# Altium integrated library Wurth-inductor.IntLib: 175 symbols (part 3 of 3)
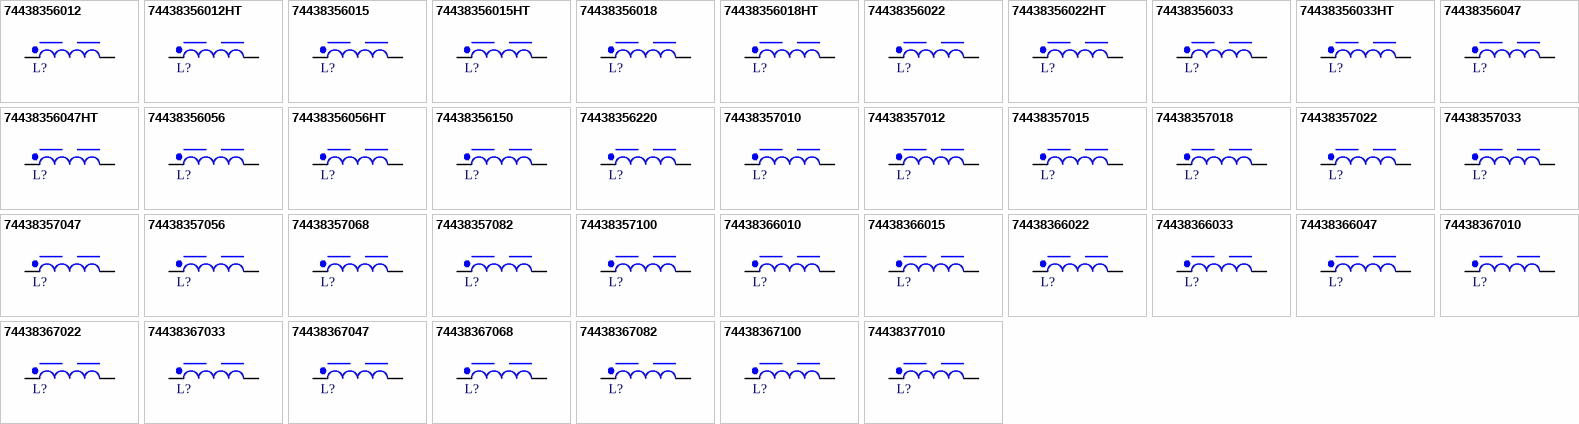
[diagram p6: symbols 74438356012 to 74438377010]

## 74438367082
designator L?, comment 8.2uH, 4.4A  (value not drawn)
WE-MAPI, size 5030, 8.2uH, 4.4A, 57.5mOhm; Manufacturer Part Number: 74438367082; Manufacturer: Wurth Elektronik; Case/Size Code: 5030; DC Resistance: 50mOhm; Saturation Current: 5A; Self Resonant Frequency: 13MHz; Match Code: WE-MAPI; ComponentLink1Description: Website Link; ComponentLink1URL: https://www.we-online.com/redexpert/article/74438367082?ad; ComponentLink2Description: Datasheet Link; ComponentLink2URL: https://www.we-online.com/redexpert/spec/74438367082?ad; Mount: Surface Mount; Operating Temperature Max: 125°C; Operating Temperature Min: -40°C; Packaging: Tape and Reel; Length: 5.4mm; Width: 5.4mm; Height: 3.1mm; DC Resistance Max: 57.5mOhm; Inductance: 8.2uH; Rated Current: 4.4A
footprint WE-MAPI_5030
simulation model 5030_74438367082_8.2u
pins: 1, 2

## 74438367100
designator L?, comment 10uH, 3.3A  (value not drawn)
WE-MAPI, size 5030, 10uH, 3.3A, 70.2mOhm; Manufacturer Part Number: 74438367100; Manufacturer: Wurth Elektronik; Case/Size Code: 5030; DC Resistance: 61mOhm; Saturation Current: 4.8A; Self Resonant Frequency: 13MHz; Match Code: WE-MAPI; ComponentLink1Description: Website Link; ComponentLink1URL: https://www.we-online.com/redexpert/article/74438367100?ad; ComponentLink2Description: Datasheet Link; ComponentLink2URL: https://www.we-online.com/redexpert/spec/74438367100?ad; Mount: Surface Mount; Operating Temperature Max: 125°C; Operating Temperature Min: -40°C; Packaging: Tape and Reel; Length: 5.4mm; Width: 5.4mm; Height: 3.1mm; DC Resistance Max: 70.2mOhm; Inductance: 10uH; Rated Current: 3.3A
footprint WE-MAPI_5030
simulation model 5030_74438367100_10u
pins: 1, 2

## 74438377010
designator L?, comment 1uH, 16.6A  (value not drawn)
WE-MAPI, size 6030, 1uH, 16.6A, 5.6mOhm; Manufacturer Part Number: 74438377010; Manufacturer: Wurth Elektronik; Case/Size Code: 6030; Operating Voltage (DC): 80V; Saturation Current: 19.5A; Self Resonant Frequency: 47MHz; Match Code: WE-MAPI; ComponentLink1Description: Website Link; ComponentLink1URL: https://www.we-online.com/redexpert/article/74438377010?ad; ComponentLink2Description: Datasheet Link; ComponentLink2URL: https://www.we-online.com/redexpert/spec/74438377010?ad; Mount: Surface Mount; Operating Temperature Max: 125°C; Operating Temperature Min: -40°C; Packaging: Tape and Reel; Length: 6.6mm; Width: 6.6mm; Height: 3.1mm; DC Resistance Max: 5.6mOhm; Inductance: 1uH; Rated Current: 16.6A
footprint WE-MAPI_6030
simulation model 6030_74438377010_1u
pins: 1, 2

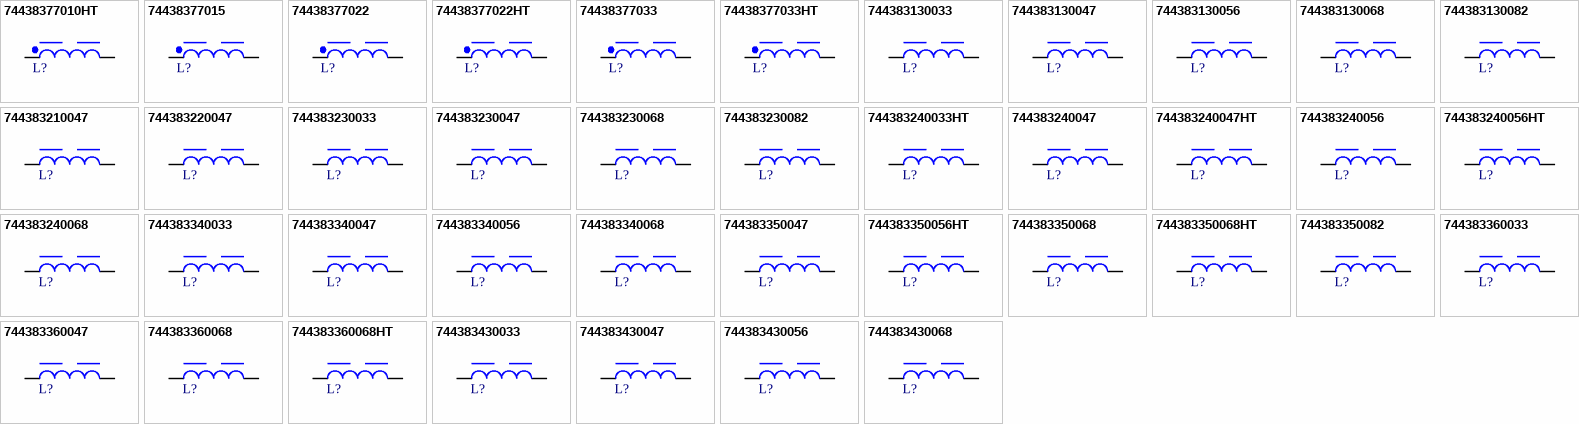
[diagram p3: symbols 74438377010HT to 744383430068]

## 74438377010HT
designator L?, comment 1uH, 15.2A  (value not drawn)
WE-MAPI, size 6030, 1uH, 15.2A, 6.9mOhm; Manufacturer Part Number: 74438377010HT; Manufacturer: Wurth Elektronik; Case/Size Code: 6030; Operating Voltage (DC): 80V; Saturation Current: 18A; Self Resonant Frequency: 47MHz; Match Code: WE-MAPI; ComponentLink1Description: Website Link; ComponentLink1URL: https://www.we-online.com/redexpert/article/74438377010HT?ad; ComponentLink2Description: Datasheet Link; ComponentLink2URL: https://www.we-online.com/redexpert/spec/74438377010HT?ad; Mount: Surface Mount; Operating Temperature Max: 150°C; Operating Temperature Min: -55°C; Packaging: Tape and Reel; Length: 6.6mm; Width: 6.6mm; Height: 3.1mm; DC Resistance Max: 6.9mOhm; Inductance: 1uH; Rated Current: 15.2A
footprint WE-MAPI_6030
simulation model 6030HT_74438377010HT_1u
pins: 1, 2

## 74438377015
designator L?, comment 1.5uH, 13.1A  (value not drawn)
WE-MAPI, size 6030, 1.5uH, 13.1A, 9.9mOhm; Manufacturer Part Number: 74438377015; Manufacturer: Wurth Elektronik; Case/Size Code: 6030; Operating Voltage (DC): 80V; Saturation Current: 15.7A; Self Resonant Frequency: 37MHz; Match Code: WE-MAPI; ComponentLink1Description: Website Link; ComponentLink1URL: https://www.we-online.com/redexpert/article/74438377015?ad; ComponentLink2Description: Datasheet Link; ComponentLink2URL: https://www.we-online.com/redexpert/spec/74438377015?ad; Mount: Surface Mount; Operating Temperature Max: 125°C; Operating Temperature Min: -40°C; Packaging: Tape and Reel; Length: 6.6mm; Width: 6.6mm; Height: 3.1mm; DC Resistance Max: 9.9mOhm; Inductance: 1.5uH; Rated Current: 13.1A
footprint WE-MAPI_6030
simulation model 6030_74438377015_1.5u
pins: 1, 2

## 74438377022
designator L?, comment 2.2uH, 12.4A  (value not drawn)
WE-MAPI, size 6030, 2.2uH, 12.4A, 11.9mOhm; Manufacturer Part Number: 74438377022; Manufacturer: Wurth Elektronik; Case/Size Code: 6030; Operating Voltage (DC): 80V; Saturation Current: 14A; Self Resonant Frequency: 30MHz; Match Code: WE-MAPI; ComponentLink1Description: Website Link; ComponentLink1URL: https://www.we-online.com/redexpert/article/74438377022?ad; ComponentLink2Description: Datasheet Link; ComponentLink2URL: https://www.we-online.com/redexpert/spec/74438377022?ad; Mount: Surface Mount; Operating Temperature Max: 125°C; Operating Temperature Min: -40°C; Packaging: Tape and Reel; Length: 6.6mm; Width: 6.6mm; Height: 3.1mm; DC Resistance Max: 11.9mOhm; Inductance: 2.2uH; Rated Current: 12.4A
footprint WE-MAPI_6030
simulation model 6030_74438377022_2.2u
pins: 1, 2

## 74438377022HT
designator L?, comment 2.2uH, 11.4A  (value not drawn)
WE-MAPI, size 6030, 2.2uH, 11.4A, 13.7mOhm; Manufacturer Part Number: 74438377022HT; Manufacturer: Wurth Elektronik; Case/Size Code: 6030; Operating Voltage (DC): 80V; Saturation Current: 12.8A; Self Resonant Frequency: 28MHz; Match Code: WE-MAPI; ComponentLink1Description: Website Link; ComponentLink1URL: https://www.we-online.com/redexpert/article/74438377022HT?ad; ComponentLink2Description: Datasheet Link; ComponentLink2URL: https://www.we-online.com/redexpert/spec/74438377022HT?ad; Mount: Surface Mount; Operating Temperature Max: 150°C; Operating Temperature Min: -55°C; Packaging: Tape and Reel; Length: 6.6mm; Width: 6.6mm; Height: 3.1mm; DC Resistance Max: 13.7mOhm; Inductance: 2.2uH; Rated Current: 11.4A
footprint WE-MAPI_6030
simulation model 6030HT_74438377022HT_2.2u
pins: 1, 2

## 74438377033
designator L?, comment 3.3uH, 9.9A  (value not drawn)
WE-MAPI, size 6030, 3.3uH, 9.9A, 18.3mOhm; Manufacturer Part Number: 74438377033; Manufacturer: Wurth Elektronik; Case/Size Code: 6030; Operating Voltage (DC): 80V; Saturation Current: 10.8A; Self Resonant Frequency: 23MHz; Match Code: WE-MAPI; ComponentLink1Description: Website Link; ComponentLink1URL: https://www.we-online.com/redexpert/article/74438377033?ad; ComponentLink2Description: Datasheet Link; ComponentLink2URL: https://www.we-online.com/redexpert/spec/74438377033?ad; Mount: Surface Mount; Operating Temperature Max: 125°C; Operating Temperature Min: -40°C; Packaging: Tape and Reel; Length: 6.6mm; Width: 6.6mm; Height: 3.1mm; DC Resistance Max: 18.3mOhm; Inductance: 3.3uH; Rated Current: 9.9A
footprint WE-MAPI_6030
simulation model 6030_74438377033_3.3u
pins: 1, 2

## 74438377033HT
designator L?, comment 3.3uH, 9.6A  (value not drawn)
WE-MAPI, size 6030, 3.3uH, 9.6A, 20.4mOhm; Manufacturer Part Number: 74438377033HT; Manufacturer: Wurth Elektronik; Case/Size Code: 6030; Operating Voltage (DC): 80V; Saturation Current: 11.2A; Self Resonant Frequency: 22MHz; Match Code: WE-MAPI; ComponentLink1Description: Website Link; ComponentLink1URL: https://www.we-online.com/redexpert/article/74438377033HT?ad; ComponentLink2Description: Datasheet Link; ComponentLink2URL: https://www.we-online.com/redexpert/spec/74438377033HT?ad; Mount: Surface Mount; Operating Temperature Max: 150°C; Operating Temperature Min: -55°C; Packaging: Tape and Reel; Length: 6.6mm; Width: 6.6mm; Height: 3.1mm; DC Resistance Max: 20.4mOhm; Inductance: 3.3uH; Rated Current: 9.6A
footprint WE-MAPI_6030
simulation model 6030HT_74438377033HT_3.3u
pins: 1, 2

## 744383130033
designator L?, comment 0.33uH, 1.9A  (value not drawn)
WE-MAPI, size 1610, 0.33uH, 1.9A, 84mOhm; Manufacturer Part Number: 744383130033; Manufacturer: Wurth Elektronik; Case/Size Code: 1610; DC Resistance: 65mOhm; Saturation Current: 4.9A; Self Resonant Frequency: 215MHz; Match Code: WE-MAPI; ComponentLink1Description: Website Link; ComponentLink1URL: https://www.we-online.com/redexpert/article/744383130033?ad; ComponentLink2Description: Datasheet Link; ComponentLink2URL: https://www.we-online.com/redexpert/spec/744383130033?ad; Mount: Surface Mount; Operating Temperature Max: 125°C; Operating Temperature Min: -40°C; Packaging: Tape and Reel; Length: 1.6mm; Width: 1.6mm; Height: 1mm; DC Resistance Max: 84mOhm; Inductance: 0.33uH; Rated Current: 1.9A
footprint WE-MAPI_1610
simulation model 1610_744383130033_0.33u
pins: 1, 2

## 744383130047
designator L?, comment 0.47uH, 1.7A  (value not drawn)
WE-MAPI, size 1610, 0.47uH, 1.7A, 101mOhm; Manufacturer Part Number: 744383130047; Manufacturer: Wurth Elektronik; Case/Size Code: 1610; DC Resistance: 77mOhm; Saturation Current: 4.5A; Self Resonant Frequency: 200MHz; Match Code: WE-MAPI; ComponentLink1Description: Website Link; ComponentLink1URL: https://www.we-online.com/redexpert/article/744383130047?ad; ComponentLink2Description: Datasheet Link; ComponentLink2URL: https://www.we-online.com/redexpert/spec/744383130047?ad; Mount: Surface Mount; Operating Temperature Max: 125°C; Operating Temperature Min: -40°C; Packaging: Tape and Reel; Length: 1.6mm; Width: 1.6mm; Height: 1mm; DC Resistance Max: 101mOhm; Inductance: 0.47uH; Rated Current: 1.7A
footprint WE-MAPI_1610
simulation model 1610_744383130047_0.47u
pins: 1, 2

## 744383130056
designator L?, comment 0.56uH, 1.65A  (value not drawn)
WE-MAPI, size 1610, 0.56uH, 1.65A, 113mOhm; Manufacturer Part Number: 744383130056; Manufacturer: Wurth Elektronik; Case/Size Code: 1610; DC Resistance: 90mOhm; Saturation Current: 4A; Self Resonant Frequency: 150MHz; Match Code: WE-MAPI; ComponentLink1Description: Website Link; ComponentLink1URL: https://www.we-online.com/redexpert/article/744383130056?ad; ComponentLink2Description: Datasheet Link; ComponentLink2URL: https://www.we-online.com/redexpert/spec/744383130056?ad; Mount: Surface Mount; Operating Temperature Max: 125°C; Operating Temperature Min: -40°C; Packaging: Tape and Reel; Length: 1.6mm; Width: 1.6mm; Height: 1mm; DC Resistance Max: 113mOhm; Inductance: 0.56uH; Rated Current: 1.65A
footprint WE-MAPI_1610
simulation model 1610_744383130056_0.56u
pins: 1, 2

## 744383130068
designator L?, comment 0.68uH, 1.55A  (value not drawn)
WE-MAPI, size 1610, 0.68uH, 1.55A, 126mOhm; Manufacturer Part Number: 744383130068; Manufacturer: Wurth Elektronik; Case/Size Code: 1610; DC Resistance: 101mOhm; Saturation Current: 3.8A; Self Resonant Frequency: 135MHz; Match Code: WE-MAPI; ComponentLink1Description: Website Link; ComponentLink1URL: https://www.we-online.com/redexpert/article/744383130068?ad; ComponentLink2Description: Datasheet Link; ComponentLink2URL: https://www.we-online.com/redexpert/spec/744383130068?ad; Mount: Surface Mount; Operating Temperature Max: 125°C; Operating Temperature Min: -40°C; Packaging: Tape and Reel; Length: 1.6mm; Width: 1.6mm; Height: 1mm; DC Resistance Max: 126mOhm; Inductance: 0.68uH; Rated Current: 1.55A
footprint WE-MAPI_1610
simulation model 1610_744383130068_0.68u
pins: 1, 2

## 744383130082
designator L?, comment 0.82uH, 1.45A  (value not drawn)
WE-MAPI, size 1610, 0.82uH, 1.45A, 144mOhm; Manufacturer Part Number: 744383130082; Manufacturer: Wurth Elektronik; Case/Size Code: 1610; DC Resistance: 115mOhm; Saturation Current: 3.6A; Self Resonant Frequency: 115MHz; Match Code: WE-MAPI; ComponentLink1Description: Website Link; ComponentLink1URL: https://www.we-online.com/redexpert/article/744383130082?ad; ComponentLink2Description: Datasheet Link; ComponentLink2URL: https://www.we-online.com/redexpert/spec/744383130082?ad; Mount: Surface Mount; Operating Temperature Max: 125°C; Operating Temperature Min: -40°C; Packaging: Tape and Reel; Length: 1.6mm; Width: 1.6mm; Height: 1mm; DC Resistance Max: 144mOhm; Inductance: 0.82uH; Rated Current: 1.45A
footprint WE-MAPI_1610
simulation model 1610_744383130082_0.82u
pins: 1, 2

## 744383210047
designator L?, comment 0.47uH, 2.2A  (value not drawn)
WE-MAPI, size 2506, 0.47uH, 2.2A, 95mOhm; Manufacturer Part Number: 744383210047; Manufacturer: Wurth Elektronik; Case/Size Code: 2506; DC Resistance: 76mOhm; Saturation Current: 3.7A; Self Resonant Frequency: 165MHz; Match Code: WE-MAPI; ComponentLink1Description: Website Link; ComponentLink1URL: https://www.we-online.com/redexpert/article/744383210047?ad; ComponentLink2Description: Datasheet Link; ComponentLink2URL: https://www.we-online.com/redexpert/spec/744383210047?ad; Mount: Surface Mount; Operating Temperature Max: 125°C; Operating Temperature Min: -40°C; Packaging: Tape and Reel; Length: 2.5mm; Width: 2mm; Height: 0.6mm; DC Resistance Max: 95mOhm; Inductance: 0.47uH; Rated Current: 2.2A
footprint WE-MAPI_2506
simulation model 2506_744383210047_0.47u
pins: 1, 2

## 744383220047
designator L?, comment 0.47uH, 2.25A  (value not drawn)
WE-MAPI, size 2508, 0.47uH, 2.25A, 87mOhm; Manufacturer Part Number: 744383220047; Manufacturer: Wurth Elektronik; Case/Size Code: 2508; DC Resistance: 70mOhm; Saturation Current: 4.4A; Self Resonant Frequency: 160MHz; Match Code: WE-MAPI; ComponentLink1Description: Website Link; ComponentLink1URL: https://www.we-online.com/redexpert/article/744383220047?ad; ComponentLink2Description: Datasheet Link; ComponentLink2URL: https://www.we-online.com/redexpert/spec/744383220047?ad; Mount: Surface Mount; Operating Temperature Max: 125°C; Operating Temperature Min: -40°C; Packaging: Tape and Reel; Length: 2.5mm; Width: 2mm; Height: 0.8mm; DC Resistance Max: 87mOhm; Inductance: 0.47uH; Rated Current: 2.25A
footprint WE-MAPI_2508
simulation model 2508_744383220047_0.47u
pins: 1, 2

## 744383230033
designator L?, comment 0.33uH, 3.4A  (value not drawn)
WE-MAPI, size 2510, 0.33uH, 3.4A, 38mOhm; Manufacturer Part Number: 744383230033; Manufacturer: Wurth Elektronik; Case/Size Code: 2510; DC Resistance: 29mOhm; Saturation Current: 6.2A; Self Resonant Frequency: 180MHz; Match Code: WE-MAPI; ComponentLink1Description: Website Link; ComponentLink1URL: https://www.we-online.com/redexpert/article/744383230033?ad; ComponentLink2Description: Datasheet Link; ComponentLink2URL: https://www.we-online.com/redexpert/spec/744383230033?ad; Mount: Surface Mount; Operating Temperature Max: 125°C; Operating Temperature Min: -40°C; Packaging: Tape and Reel; Length: 2.5mm; Width: 2mm; Height: 1mm; DC Resistance Max: 38mOhm; Inductance: 0.33uH; Rated Current: 3.4A
footprint WE-MAPI_2510
simulation model 2510_744383230033_0.33u
pins: 1, 2

## 744383230047
designator L?, comment 0.47uH, 3.2A  (value not drawn)
WE-MAPI, size 2510, 0.47uH, 3.2A, 48mOhm; Manufacturer Part Number: 744383230047; Manufacturer: Wurth Elektronik; Case/Size Code: 2510; DC Resistance: 37mOhm; Saturation Current: 5.5A; Self Resonant Frequency: 170MHz; Match Code: WE-MAPI; ComponentLink1Description: Website Link; ComponentLink1URL: https://www.we-online.com/redexpert/article/744383230047?ad; ComponentLink2Description: Datasheet Link; ComponentLink2URL: https://www.we-online.com/redexpert/spec/744383230047?ad; Mount: Surface Mount; Operating Temperature Max: 125°C; Operating Temperature Min: -40°C; Packaging: Tape and Reel; Length: 2.5mm; Width: 2mm; Height: 1mm; DC Resistance Max: 48mOhm; Inductance: 0.47uH; Rated Current: 3.2A
footprint WE-MAPI_2510
simulation model 2510_744383230047_0.47u
pins: 1, 2

## 744383230068
designator L?, comment 0.68uH, 3.1A  (value not drawn)
WE-MAPI, size 2510, 0.68uH, 3.1A, 60mOhm; Manufacturer Part Number: 744383230068; Manufacturer: Wurth Elektronik; Case/Size Code: 2510; DC Resistance: 46mOhm; Saturation Current: 4.7A; Self Resonant Frequency: 135MHz; Match Code: WE-MAPI; ComponentLink1Description: Website Link; ComponentLink1URL: https://www.we-online.com/redexpert/article/744383230068?ad; ComponentLink2Description: Datasheet Link; ComponentLink2URL: https://www.we-online.com/redexpert/spec/744383230068?ad; Mount: Surface Mount; Operating Temperature Max: 125°C; Operating Temperature Min: -40°C; Packaging: Tape and Reel; Length: 2.5mm; Width: 2mm; Height: 1mm; DC Resistance Max: 60mOhm; Inductance: 0.68uH; Rated Current: 3.1A
footprint WE-MAPI_2510
simulation model 2510_744383230068_0.68u
pins: 1, 2

## 744383230082
designator L?, comment 0.82uH, 2.6A  (value not drawn)
WE-MAPI, size 2510, 0.82uH, 2.6A, 69mOhm; Manufacturer Part Number: 744383230082; Manufacturer: Wurth Elektronik; Case/Size Code: 2510; DC Resistance: 53mOhm; Saturation Current: 4.25A; Self Resonant Frequency: 105MHz; Match Code: WE-MAPI; ComponentLink1Description: Website Link; ComponentLink1URL: https://www.we-online.com/redexpert/article/744383230082?ad; ComponentLink2Description: Datasheet Link; ComponentLink2URL: https://www.we-online.com/redexpert/spec/744383230082?ad; Mount: Surface Mount; Operating Temperature Max: 125°C; Operating Temperature Min: -40°C; Packaging: Tape and Reel; Length: 2.5mm; Width: 2mm; Height: 1mm; DC Resistance Max: 69mOhm; Inductance: 0.82uH; Rated Current: 2.6A
footprint WE-MAPI_2510
simulation model 2510_744383230082_0.82u
pins: 1, 2

## 744383240033HT
designator L?, comment 0.33uH, 6.2A  (value not drawn)
WE-MAPI, size 2512, 0.33uH, 6.2A, 26.7mOhm; Manufacturer Part Number: 744383240033HT; Manufacturer: Wurth Elektronik; Case/Size Code: 2512; Operating Voltage (DC): 80V; Saturation Current: 8.6A; Self Resonant Frequency: 174MHz; Match Code: WE-MAPI; ComponentLink1Description: Website Link; ComponentLink1URL: https://www.we-online.com/redexpert/article/744383240033HT?ad; ComponentLink2Description: Datasheet Link; ComponentLink2URL: https://www.we-online.com/redexpert/spec/744383240033HT?ad; Mount: Surface Mount; Operating Temperature Max: 150°C; Operating Temperature Min: -55°C; Packaging: Tape and Reel; Length: 2.5mm; Width: 2mm; Height: 1.2mm; DC Resistance Max: 26.7mOhm; Inductance: 0.33uH; Rated Current: 6.2A
footprint WE-MAPI_2512
simulation model 2512HT_744383240033HT_0.33u
pins: 1, 2

## 744383240047
designator L?, comment 0.47uH, 3.4A  (value not drawn)
WE-MAPI, size 2512, 0.47uH, 3.4A, 40mOhm; Manufacturer Part Number: 744383240047; Manufacturer: Wurth Elektronik; Case/Size Code: 2512; DC Resistance: 30mOhm; Saturation Current: 6.25A; Self Resonant Frequency: 145MHz; Match Code: WE-MAPI; ComponentLink1Description: Website Link; ComponentLink1URL: https://www.we-online.com/redexpert/article/744383240047?ad; ComponentLink2Description: Datasheet Link; ComponentLink2URL: https://www.we-online.com/redexpert/spec/744383240047?ad; Mount: Surface Mount; Operating Temperature Max: 125°C; Operating Temperature Min: -40°C; Packaging: Tape and Reel; Length: 2.5mm; Width: 2mm; Height: 1.2mm; DC Resistance Max: 40mOhm; Inductance: 0.47uH; Rated Current: 3.4A
footprint WE-MAPI_2512
simulation model 2512_744383240047_0.47u
pins: 1, 2

## 744383240047HT
designator L?, comment 0.47uH, 5.3A  (value not drawn)
WE-MAPI, size 2512, 0.47uH, 5.3A, 34.7mOhm; Manufacturer Part Number: 744383240047HT; Manufacturer: Wurth Elektronik; Case/Size Code: 2512; Operating Voltage (DC): 80V; Saturation Current: 7.5A; Self Resonant Frequency: 131MHz; Match Code: WE-MAPI; ComponentLink1Description: Website Link; ComponentLink1URL: https://www.we-online.com/redexpert/article/744383240047HT?ad; ComponentLink2Description: Datasheet Link; ComponentLink2URL: https://www.we-online.com/redexpert/spec/744383240047HT?ad; Mount: Surface Mount; Operating Temperature Max: 150°C; Operating Temperature Min: -55°C; Packaging: Tape and Reel; Length: 2.5mm; Width: 2mm; Height: 1.2mm; DC Resistance Max: 34.7mOhm; Inductance: 0.47uH; Rated Current: 5.3A
footprint WE-MAPI_2512
simulation model 2512HT_744383240047HT_0.47u
pins: 1, 2

## 744383240056
designator L?, comment 0.56uH, 3.3A  (value not drawn)
WE-MAPI, size 2512, 0.56uH, 3.3A, 49mOhm; Manufacturer Part Number: 744383240056; Manufacturer: Wurth Elektronik; Case/Size Code: 2512; DC Resistance: 37mOhm; Saturation Current: 6A; Self Resonant Frequency: 120MHz; Match Code: WE-MAPI; ComponentLink1Description: Website Link; ComponentLink1URL: https://www.we-online.com/redexpert/article/744383240056?ad; ComponentLink2Description: Datasheet Link; ComponentLink2URL: https://www.we-online.com/redexpert/spec/744383240056?ad; Mount: Surface Mount; Operating Temperature Max: 125°C; Operating Temperature Min: -40°C; Packaging: Tape and Reel; Length: 2.5mm; Width: 2mm; Height: 1.2mm; DC Resistance Max: 49mOhm; Inductance: 0.56uH; Rated Current: 3.3A
footprint WE-MAPI_2512
simulation model 2512_744383240056_0.56u
pins: 1, 2

## 744383240056HT
designator L?, comment 0.56uH, 4.7A  (value not drawn)
WE-MAPI, size 2512, 0.56uH, 4.7A, 44.1mOhm; Manufacturer Part Number: 744383240056HT; Manufacturer: Wurth Elektronik; Case/Size Code: 2512; Operating Voltage (DC): 80V; Saturation Current: 6.7A; Self Resonant Frequency: 102MHz; Match Code: WE-MAPI; ComponentLink1Description: Website Link; ComponentLink1URL: https://www.we-online.com/redexpert/article/744383240056HT?ad; ComponentLink2Description: Datasheet Link; ComponentLink2URL: https://www.we-online.com/redexpert/spec/744383240056HT?ad; Mount: Surface Mount; Operating Temperature Max: 150°C; Operating Temperature Min: -55°C; Packaging: Tape and Reel; Length: 2.5mm; Width: 2mm; Height: 1.2mm; DC Resistance Max: 44.1mOhm; Inductance: 0.56uH; Rated Current: 4.7A
footprint WE-MAPI_2512
simulation model 2512HT_744383240056HT_0.56u
pins: 1, 2

## 744383240068
designator L?, comment 0.68uH, 3.2A  (value not drawn)
WE-MAPI, size 2512, 0.68uH, 3.2A, 59mOhm; Manufacturer Part Number: 744383240068; Manufacturer: Wurth Elektronik; Case/Size Code: 2512; DC Resistance: 45mOhm; Saturation Current: 5.85A; Self Resonant Frequency: 102MHz; Match Code: WE-MAPI; ComponentLink1Description: Website Link; ComponentLink1URL: https://www.we-online.com/redexpert/article/744383240068?ad; ComponentLink2Description: Datasheet Link; ComponentLink2URL: https://www.we-online.com/redexpert/spec/744383240068?ad; Mount: Surface Mount; Operating Temperature Max: 125°C; Operating Temperature Min: -40°C; Packaging: Tape and Reel; Length: 2.5mm; Width: 2mm; Height: 1.2mm; DC Resistance Max: 59mOhm; Inductance: 0.68uH; Rated Current: 3.2A
footprint WE-MAPI_2512
simulation model 2512_744383240068_0.68u
pins: 1, 2

## 744383340033
designator L?, comment 0.33uH, 4.8A  (value not drawn)
WE-MAPI, size 3012, 0.33uH, 4.8A, 22.8mOhm; Manufacturer Part Number: 744383340033; Manufacturer: Wurth Elektronik; Case/Size Code: 3012; DC Resistance: 19mOhm; Saturation Current: 11.1A; Self Resonant Frequency: 140MHz; Match Code: WE-MAPI; ComponentLink1Description: Website Link; ComponentLink1URL: https://www.we-online.com/redexpert/article/744383340033?ad; ComponentLink2Description: Datasheet Link; ComponentLink2URL: https://www.we-online.com/redexpert/spec/744383340033?ad; Mount: Surface Mount; Operating Temperature Max: 125°C; Operating Temperature Min: -40°C; Packaging: Tape and Reel; Length: 3mm; Width: 3mm; Height: 1.2mm; DC Resistance Max: 22.8mOhm; Inductance: 0.33uH; Rated Current: 4.8A
footprint WE-MAPI_3012
simulation model 3012_744383340033_0.33u
pins: 1, 2

## 744383340047
designator L?, comment 0.47uH, 4A  (value not drawn)
WE-MAPI, size 3012, 0.47uH, 4A, 26.4mOhm; Manufacturer Part Number: 744383340047; Manufacturer: Wurth Elektronik; Case/Size Code: 3012; DC Resistance: 22mOhm; Saturation Current: 9.4A; Self Resonant Frequency: 110MHz; Match Code: WE-MAPI; ComponentLink1Description: Website Link; ComponentLink1URL: https://www.we-online.com/redexpert/article/744383340047?ad; ComponentLink2Description: Datasheet Link; ComponentLink2URL: https://www.we-online.com/redexpert/spec/744383340047?ad; Mount: Surface Mount; Operating Temperature Max: 125°C; Operating Temperature Min: -40°C; Packaging: Tape and Reel; Length: 3mm; Width: 3mm; Height: 1.2mm; DC Resistance Max: 26.4mOhm; Inductance: 0.47uH; Rated Current: 4A
footprint WE-MAPI_3012
simulation model 3012_744383340047_0.47u
pins: 1, 2

## 744383340056
designator L?, comment 0.56uH, 3.6A  (value not drawn)
WE-MAPI, size 3012, 0.56uH, 3.6A, 34.8mOhm; Manufacturer Part Number: 744383340056; Manufacturer: Wurth Elektronik; Case/Size Code: 3012; DC Resistance: 29mOhm; Saturation Current: 8.5A; Self Resonant Frequency: 108MHz; Match Code: WE-MAPI; ComponentLink1Description: Website Link; ComponentLink1URL: https://www.we-online.com/redexpert/article/744383340056?ad; ComponentLink2Description: Datasheet Link; ComponentLink2URL: https://www.we-online.com/redexpert/spec/744383340056?ad; Mount: Surface Mount; Operating Temperature Max: 125°C; Operating Temperature Min: -40°C; Packaging: Tape and Reel; Length: 3mm; Width: 3mm; Height: 1.2mm; DC Resistance Max: 34.8mOhm; Inductance: 0.56uH; Rated Current: 3.6A
footprint WE-MAPI_3012
simulation model 3012_744383340056_0.56u
pins: 1, 2

## 744383340068
designator L?, comment 0.68uH, 3.5A  (value not drawn)
WE-MAPI, size 3012, 0.68uH, 3.5A, 43.2mOhm; Manufacturer Part Number: 744383340068; Manufacturer: Wurth Elektronik; Case/Size Code: 3012; DC Resistance: 36mOhm; Saturation Current: 7.7A; Self Resonant Frequency: 100MHz; Match Code: WE-MAPI; ComponentLink1Description: Website Link; ComponentLink1URL: https://www.we-online.com/redexpert/article/744383340068?ad; ComponentLink2Description: Datasheet Link; ComponentLink2URL: https://www.we-online.com/redexpert/spec/744383340068?ad; Mount: Surface Mount; Operating Temperature Max: 125°C; Operating Temperature Min: -40°C; Packaging: Tape and Reel; Length: 3mm; Width: 3mm; Height: 1.2mm; DC Resistance Max: 43.2mOhm; Inductance: 0.68uH; Rated Current: 3.5A
footprint WE-MAPI_3012
simulation model 3012_744383340068_0.68u
pins: 1, 2

## 744383350047
designator L?, comment 0.47uH, 4.6A  (value not drawn)
WE-MAPI, size 3015, 0.47uH, 4.6A, 23mOhm; Manufacturer Part Number: 744383350047; Manufacturer: Wurth Elektronik; Case/Size Code: 3015; DC Resistance: 20mOhm; Saturation Current: 5.8A; Self Resonant Frequency: 105MHz; Match Code: WE-MAPI; ComponentLink1Description: Website Link; ComponentLink1URL: https://www.we-online.com/redexpert/article/744383350047?ad; ComponentLink2Description: Datasheet Link; ComponentLink2URL: https://www.we-online.com/redexpert/spec/744383350047?ad; Mount: Surface Mount; Operating Temperature Max: 125°C; Operating Temperature Min: -40°C; Packaging: Tape and Reel; Length: 3mm; Width: 3mm; Height: 1.5mm; DC Resistance Max: 23mOhm; Inductance: 0.47uH; Rated Current: 4.6A
footprint WE-MAPI_3015
simulation model 3015_744383350047_0.47u
pins: 1, 2

## 744383350056HT
designator L?, comment 0.56uH, 7.3A  (value not drawn)
WE-MAPI, size 3015, 0.56uH, 7.3A, 22.2mOhm; Manufacturer Part Number: 744383350056HT; Manufacturer: Wurth Elektronik; Case/Size Code: 3015; Operating Voltage (DC): 80V; Saturation Current: 7.8A; Self Resonant Frequency: 93MHz; Match Code: WE-MAPI; ComponentLink1Description: Website Link; ComponentLink1URL: https://www.we-online.com/redexpert/article/744383350056HT?ad; ComponentLink2Description: Datasheet Link; ComponentLink2URL: https://www.we-online.com/redexpert/spec/744383350056HT?ad; Mount: Surface Mount; Operating Temperature Max: 150°C; Operating Temperature Min: -55°C; Packaging: Tape and Reel; Length: 3mm; Width: 1.5mm; Height: 1.5mm; DC Resistance Max: 22.2mOhm; Inductance: 0.56uH; Rated Current: 7.3A
footprint WE-MAPI_3015
simulation model 3015HT_744383350056HT_0.56u
pins: 1, 2

## 744383350068
designator L?, comment 0.68uH, 4.1A  (value not drawn)
WE-MAPI, size 3015, 0.68uH, 4.1A, 30mOhm; Manufacturer Part Number: 744383350068; Manufacturer: Wurth Elektronik; Case/Size Code: 3015; DC Resistance: 25mOhm; Saturation Current: 8.1A; Self Resonant Frequency: 100MHz; Match Code: WE-MAPI; ComponentLink1Description: Website Link; ComponentLink1URL: https://www.we-online.com/redexpert/article/744383350068?ad; ComponentLink2Description: Datasheet Link; ComponentLink2URL: https://www.we-online.com/redexpert/spec/744383350068?ad; Mount: Surface Mount; Operating Temperature Max: 125°C; Operating Temperature Min: -40°C; Packaging: Tape and Reel; Length: 3mm; Width: 3mm; Height: 1.5mm; DC Resistance Max: 30mOhm; Inductance: 0.68uH; Rated Current: 4.1A
footprint WE-MAPI_3015
simulation model 3015_744383350068_0.68u
pins: 1, 2

## 744383350068HT
designator L?, comment 0.68uH, 6.8A  (value not drawn)
WE-MAPI, size 3015, 0.68uH, 6.8A, 25.5mOhm; Manufacturer Part Number: 744383350068HT; Manufacturer: Wurth Elektronik; Case/Size Code: 3015; Operating Voltage (DC): 80V; Saturation Current: 7.4A; Self Resonant Frequency: 78MHz; Match Code: WE-MAPI; ComponentLink1Description: Website Link; ComponentLink1URL: https://www.we-online.com/redexpert/article/744383350068HT?ad; ComponentLink2Description: Datasheet Link; ComponentLink2URL: https://www.we-online.com/redexpert/spec/744383350068HT?ad; Mount: Surface Mount; Operating Temperature Max: 150°C; Operating Temperature Min: -55°C; Packaging: Tape and Reel; Length: 3mm; Width: 1.5mm; Height: 1.5mm; DC Resistance Max: 25.5mOhm; Inductance: 0.68uH; Rated Current: 6.8A
footprint WE-MAPI_3015
simulation model 3015HT_744383350068HT_0.68u
pins: 1, 2

## 744383350082
designator L?, comment 0.82uH, 3.5A  (value not drawn)
WE-MAPI, size 3015, 0.82uH, 3.5A, 35mOhm; Manufacturer Part Number: 744383350082; Manufacturer: Wurth Elektronik; Case/Size Code: 3015; DC Resistance: 30mOhm; Saturation Current: 7A; Self Resonant Frequency: 85MHz; Match Code: WE-MAPI; ComponentLink1Description: Website Link; ComponentLink1URL: https://www.we-online.com/redexpert/article/744383350082?ad; ComponentLink2Description: Datasheet Link; ComponentLink2URL: https://www.we-online.com/redexpert/spec/744383350082?ad; Mount: Surface Mount; Operating Temperature Max: 125°C; Operating Temperature Min: -40°C; Packaging: Tape and Reel; Length: 3mm; Width: 3mm; Height: 1.5mm; DC Resistance Max: 35mOhm; Inductance: 0.82uH; Rated Current: 3.5A
footprint WE-MAPI_3015
simulation model 3015_744383350082_0.82u
pins: 1, 2

## 744383360033
designator L?, comment 0.33uH, 5.5A  (value not drawn)
WE-MAPI, size 3020, 0.33uH, 5.5A, 17mOhm; Manufacturer Part Number: 744383360033; Manufacturer: Wurth Elektronik; Case/Size Code: 3020; DC Resistance: 14mOhm; Saturation Current: 8.3A; Self Resonant Frequency: 140MHz; Match Code: WE-MAPI; ComponentLink1Description: Website Link; ComponentLink1URL: https://www.we-online.com/redexpert/article/744383360033?ad; ComponentLink2Description: Datasheet Link; ComponentLink2URL: https://www.we-online.com/redexpert/spec/744383360033?ad; Mount: Surface Mount; Operating Temperature Max: 125°C; Operating Temperature Min: -40°C; Packaging: Tape and Reel; Length: 3mm; Width: 3mm; Height: 2mm; DC Resistance Max: 17mOhm; Inductance: 0.33uH; Rated Current: 5.5A
footprint WE-MAPI_3020
simulation model 3020_744383360033_0.33u
pins: 1, 2

## 744383360047
designator L?, comment 0.47uH, 4.8A  (value not drawn)
WE-MAPI, size 3020, 0.47uH, 4.8A, 22mOhm; Manufacturer Part Number: 744383360047; Manufacturer: Wurth Elektronik; Case/Size Code: 3020; DC Resistance: 18mOhm; Saturation Current: 8A; Self Resonant Frequency: 99MHz; Match Code: WE-MAPI; ComponentLink1Description: Website Link; ComponentLink1URL: https://www.we-online.com/redexpert/article/744383360047?ad; ComponentLink2Description: Datasheet Link; ComponentLink2URL: https://www.we-online.com/redexpert/spec/744383360047?ad; Mount: Surface Mount; Operating Temperature Max: 125°C; Operating Temperature Min: -40°C; Packaging: Tape and Reel; Length: 3mm; Width: 3mm; Height: 2mm; DC Resistance Max: 22mOhm; Inductance: 0.47uH; Rated Current: 4.8A
footprint WE-MAPI_3020
simulation model 3020_744383360047_0.47u
pins: 1, 2

## 744383360068
designator L?, comment 0.68uH, 4.5A  (value not drawn)
WE-MAPI, size 3020, 0.68uH, 4.5A, 27mOhm; Manufacturer Part Number: 744383360068; Manufacturer: Wurth Elektronik; Case/Size Code: 3020; DC Resistance: 22mOhm; Saturation Current: 6.2A; Self Resonant Frequency: 85MHz; Match Code: WE-MAPI; ComponentLink1Description: Website Link; ComponentLink1URL: https://www.we-online.com/redexpert/article/744383360068?ad; ComponentLink2Description: Datasheet Link; ComponentLink2URL: https://www.we-online.com/redexpert/spec/744383360068?ad; Mount: Surface Mount; Operating Temperature Max: 125°C; Operating Temperature Min: -40°C; Packaging: Tape and Reel; Length: 3mm; Width: 3mm; Height: 2mm; DC Resistance Max: 27mOhm; Inductance: 0.68uH; Rated Current: 4.5A
footprint WE-MAPI_3020
simulation model 3020_744383360068_0.68u
pins: 1, 2

## 744383360068HT
designator L?, comment 0.68uH, 6.4A  (value not drawn)
WE-MAPI, size 3020, 0.68uH, 6.4A, 28.1mOhm; Manufacturer Part Number: 744383360068HT; Manufacturer: Wurth Elektronik; Case/Size Code: 3020; Operating Voltage (DC): 80V; Saturation Current: 6.7A; Self Resonant Frequency: 85MHz; Match Code: WE-MAPI; ComponentLink1Description: Website Link; ComponentLink1URL: https://www.we-online.com/redexpert/article/744383360068HT?ad; ComponentLink2Description: Datasheet Link; ComponentLink2URL: https://www.we-online.com/redexpert/spec/744383360068HT?ad; Mount: Surface Mount; Operating Temperature Max: 150°C; Operating Temperature Min: -55°C; Packaging: Tape and Reel; Length: 3mm; Width: 3mm; Height: 2mm; DC Resistance Max: 28.1mOhm; Inductance: 0.68uH; Rated Current: 6.4A
footprint WE-MAPI_3020
simulation model 3020HT_744383360068HT_0.68u
pins: 1, 2

## 744383430033
designator L?, comment 0.33uH, 2.5A  (value not drawn)
WE-MAPI, size 2010, 0.33uH, 2.5A, 53mOhm; Manufacturer Part Number: 744383430033; Manufacturer: Wurth Elektronik; Case/Size Code: 2010; DC Resistance: 40mOhm; Saturation Current: 5.9A; Self Resonant Frequency: 205MHz; Match Code: WE-MAPI; ComponentLink1Description: Website Link; ComponentLink1URL: https://www.we-online.com/redexpert/article/744383430033?ad; ComponentLink2Description: Datasheet Link; ComponentLink2URL: https://www.we-online.com/redexpert/spec/744383430033?ad; Mount: Surface Mount; Operating Temperature Max: 125°C; Operating Temperature Min: -40°C; Packaging: Tape and Reel; Length: 2mm; Width: 1.6mm; Height: 1mm; DC Resistance Max: 53mOhm; Inductance: 0.33uH; Rated Current: 2.5A
footprint WE-MAPI_2010
simulation model 2010_744383430033_0.33u
pins: 1, 2

## 744383430047
designator L?, comment 0.47uH, 2.3A  (value not drawn)
WE-MAPI, size 2010, 0.47uH, 2.3A, 63mOhm; Manufacturer Part Number: 744383430047; Manufacturer: Wurth Elektronik; Case/Size Code: 2010; DC Resistance: 49mOhm; Saturation Current: 5.25A; Self Resonant Frequency: 175MHz; Match Code: WE-MAPI; ComponentLink1Description: Website Link; ComponentLink1URL: https://www.we-online.com/redexpert/article/744383430047?ad; ComponentLink2Description: Datasheet Link; ComponentLink2URL: https://www.we-online.com/redexpert/spec/744383430047?ad; Mount: Surface Mount; Operating Temperature Max: 125°C; Operating Temperature Min: -40°C; Packaging: Tape and Reel; Length: 2mm; Width: 1.6mm; Height: 1mm; DC Resistance Max: 63mOhm; Inductance: 0.47uH; Rated Current: 2.3A
footprint WE-MAPI_2010
simulation model 2010_744383430047_0.47u
pins: 1, 2

## 744383430056
designator L?, comment 0.56uH, 2.1A  (value not drawn)
WE-MAPI, size 2010, 0.56uH, 2.1A, 73mOhm; Manufacturer Part Number: 744383430056; Manufacturer: Wurth Elektronik; Case/Size Code: 2010; DC Resistance: 56mOhm; Saturation Current: 5A; Self Resonant Frequency: 135MHz; Match Code: WE-MAPI; ComponentLink1Description: Website Link; ComponentLink1URL: https://www.we-online.com/redexpert/article/744383430056?ad; ComponentLink2Description: Datasheet Link; ComponentLink2URL: https://www.we-online.com/redexpert/spec/744383430056?ad; Mount: Surface Mount; Operating Temperature Max: 125°C; Operating Temperature Min: -40°C; Packaging: Tape and Reel; Length: 2mm; Width: 1.6mm; Height: 1mm; DC Resistance Max: 73mOhm; Inductance: 0.56uH; Rated Current: 2.1A
footprint WE-MAPI_2010
simulation model 2010_744383430056_0.56u
pins: 1, 2

## 744383430068
designator L?, comment 0.68uH, 2A  (value not drawn)
WE-MAPI, size 2010, 0.68uH, 2A, 84mOhm; Manufacturer Part Number: 744383430068; Manufacturer: Wurth Elektronik; Case/Size Code: 2010; DC Resistance: 65mOhm; Saturation Current: 4.7A; Self Resonant Frequency: 130MHz; Match Code: WE-MAPI; ComponentLink1Description: Website Link; ComponentLink1URL: https://www.we-online.com/redexpert/article/744383430068?ad; ComponentLink2Description: Datasheet Link; ComponentLink2URL: https://www.we-online.com/redexpert/spec/744383430068?ad; Mount: Surface Mount; Operating Temperature Max: 125°C; Operating Temperature Min: -40°C; Packaging: Tape and Reel; Length: 2mm; Width: 1.6mm; Height: 1mm; DC Resistance Max: 84mOhm; Inductance: 0.68uH; Rated Current: 2A
footprint WE-MAPI_2010
simulation model 2010_744383430068_0.68u
pins: 1, 2

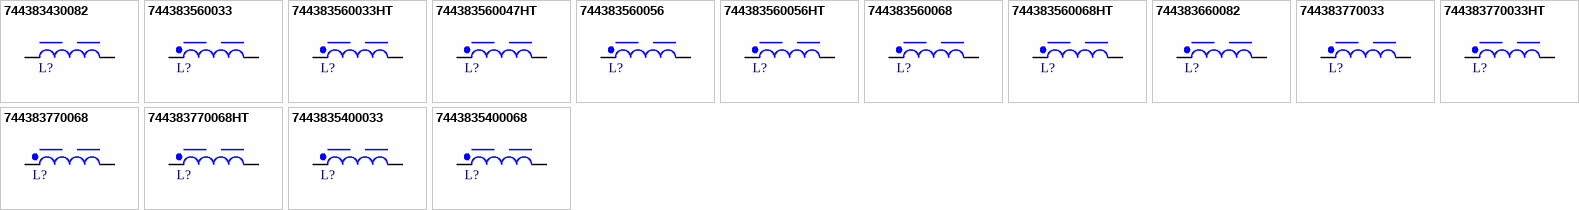
[diagram p4: symbols 744383430082 to 7443835400068]

## 744383430082
designator L?, comment 0.82uH, 1.9A  (value not drawn)
WE-MAPI, size 2010, 0.82uH, 1.9A, 92mOhm; Manufacturer Part Number: 744383430082; Manufacturer: Wurth Elektronik; Case/Size Code: 2010; DC Resistance: 71mOhm; Saturation Current: 4.2A; Self Resonant Frequency: 125MHz; Match Code: WE-MAPI; ComponentLink1Description: Website Link; ComponentLink1URL: https://www.we-online.com/redexpert/article/744383430082?ad; ComponentLink2Description: Datasheet Link; ComponentLink2URL: https://www.we-online.com/redexpert/spec/744383430082?ad; Mount: Surface Mount; Operating Temperature Max: 125°C; Operating Temperature Min: -40°C; Packaging: Tape and Reel; Length: 2mm; Width: 1.6mm; Height: 1mm; DC Resistance Max: 92mOhm; Inductance: 0.82uH; Rated Current: 1.9A
footprint WE-MAPI_2010
simulation model 2010_744383430082_0.82u
pins: 1, 2

## 744383560033
designator L?, comment 0.33uH, 9.6A  (value not drawn)
WE-MAPI, size 4020, 0.33uH, 9.6A, 7.2mOhm; Manufacturer Part Number: 744383560033; Manufacturer: Wurth Elektronik; Case/Size Code: 4020; DC Resistance: 6mOhm; Saturation Current: 12.4A; Self Resonant Frequency: 115MHz; Match Code: WE-MAPI; ComponentLink1Description: Website Link; ComponentLink1URL: https://www.we-online.com/redexpert/article/744383560033?ad; ComponentLink2Description: Datasheet Link; ComponentLink2URL: https://www.we-online.com/redexpert/spec/744383560033?ad; Mount: Surface Mount; Operating Temperature Max: 125°C; Operating Temperature Min: -40°C; Packaging: Tape and Reel; Length: 4.1mm; Width: 4.1mm; Height: 2.1mm; DC Resistance Max: 7.2mOhm; Inductance: 0.33uH; Rated Current: 9.6A
footprint WE-MAPI_4020
simulation model 4020_744383560033_0.33u
pins: 1, 2

## 744383560033HT
designator L?, comment 0.33uH, 9.9A  (value not drawn)
WE-MAPI, size 4020, 0.33uH, 9.9A, 7.5mOhm; Manufacturer Part Number: 744383560033HT; Manufacturer: Wurth Elektronik; Case/Size Code: 4020; DC Resistance: 6.5mOhm; Saturation Current: 11A; Self Resonant Frequency: 98MHz; Match Code: WE-MAPI; ComponentLink1Description: Website Link; ComponentLink1URL: https://www.we-online.com/redexpert/article/744383560033HT?ad; ComponentLink2Description: Datasheet Link; ComponentLink2URL: https://www.we-online.com/redexpert/spec/744383560033HT?ad; Mount: Surface Mount; Operating Temperature Max: 150°C; Operating Temperature Min: -55°C; Packaging: Tape and Reel; Length: 4.1mm; Width: 4.1mm; Height: 2.1mm; DC Resistance Max: 7.5mOhm; Inductance: 0.33uH; Rated Current: 9.9A
footprint WE-MAPI_4020
simulation model 4020_744383560033HT_0.33u
pins: 1, 2

## 744383560047HT
designator L?, comment 0.47uH, 8.5A  (value not drawn)
WE-MAPI, size 4020, 0.47uH, 8.5A, 8.1mOhm; Manufacturer Part Number: 744383560047HT; Manufacturer: Wurth Elektronik; Case/Size Code: 4020; DC Resistance: 7mOhm; Saturation Current: 10A; Self Resonant Frequency: 83MHz; Match Code: WE-MAPI; ComponentLink1Description: Website Link; ComponentLink1URL: https://www.we-online.com/redexpert/article/744383560047HT?ad; ComponentLink2Description: Datasheet Link; ComponentLink2URL: https://www.we-online.com/redexpert/spec/744383560047HT?ad; Mount: Surface Mount; Operating Temperature Max: 150°C; Operating Temperature Min: -55°C; Packaging: Tape and Reel; Length: 4.1mm; Width: 4.1mm; Height: 2.1mm; DC Resistance Max: 8.1mOhm; Inductance: 0.47uH; Rated Current: 8.5A
footprint WE-MAPI_4020
simulation model 4020_744383560047HT_0.47u
pins: 1, 2

## 744383560056
designator L?, comment 0.56uH, 8.5A  (value not drawn)
WE-MAPI, size 4020, 0.56uH, 8.5A, 8.4mOhm; Manufacturer Part Number: 744383560056; Manufacturer: Wurth Elektronik; Case/Size Code: 4020; DC Resistance: 7mOhm; Saturation Current: 10.8A; Self Resonant Frequency: 85MHz; Match Code: WE-MAPI; ComponentLink1Description: Website Link; ComponentLink1URL: https://www.we-online.com/redexpert/article/744383560056?ad; ComponentLink2Description: Datasheet Link; ComponentLink2URL: https://www.we-online.com/redexpert/spec/744383560056?ad; Mount: Surface Mount; Operating Temperature Max: 125°C; Operating Temperature Min: -40°C; Packaging: Tape and Reel; Length: 4.1mm; Width: 4.1mm; Height: 2.1mm; DC Resistance Max: 8.4mOhm; Inductance: 0.56uH; Rated Current: 8.5A
footprint WE-MAPI_4020
simulation model 4020_744383560056_0.56u
pins: 1, 2

## 744383560056HT
designator L?, comment 0.56uH, 8.2A  (value not drawn)
WE-MAPI, size 4020, 0.56uH, 8.2A, 8.6mOhm; Manufacturer Part Number: 744383560056HT; Manufacturer: Wurth Elektronik; Case/Size Code: 4020; DC Resistance: 7.5mOhm; Saturation Current: 9.55A; Self Resonant Frequency: 72MHz; Match Code: WE-MAPI; ComponentLink1Description: Website Link; ComponentLink1URL: https://www.we-online.com/redexpert/article/744383560056HT?ad; ComponentLink2Description: Datasheet Link; ComponentLink2URL: https://www.we-online.com/redexpert/spec/744383560056HT?ad; Mount: Surface Mount; Operating Temperature Max: 150°C; Operating Temperature Min: -55°C; Packaging: Tape and Reel; Length: 4.1mm; Width: 4.1mm; Height: 2.1mm; DC Resistance Max: 8.6mOhm; Inductance: 0.56uH; Rated Current: 8.2A
footprint WE-MAPI_4020
simulation model 4020_744383560056HT_0.56u
pins: 1, 2

## 744383560068
designator L?, comment 0.68uH, 8.2A  (value not drawn)
WE-MAPI, size 4020, 0.68uH, 8.2A, 9mOhm; Manufacturer Part Number: 744383560068; Manufacturer: Wurth Elektronik; Case/Size Code: 4020; DC Resistance: 7.5mOhm; Saturation Current: 9.4A; Self Resonant Frequency: 75MHz; Match Code: WE-MAPI; ComponentLink1Description: Website Link; ComponentLink1URL: https://www.we-online.com/redexpert/article/744383560068?ad; ComponentLink2Description: Datasheet Link; ComponentLink2URL: https://www.we-online.com/redexpert/spec/744383560068?ad; Mount: Surface Mount; Operating Temperature Max: 125°C; Operating Temperature Min: -40°C; Packaging: Tape and Reel; Length: 4.1mm; Width: 4.1mm; Height: 2.1mm; DC Resistance Max: 9mOhm; Inductance: 0.68uH; Rated Current: 8.2A
footprint WE-MAPI_4020
simulation model 4020_744383560068_0.68u
pins: 1, 2

## 744383560068HT
designator L?, comment 0.68uH, 8.1A  (value not drawn)
WE-MAPI, size 4020, 0.68uH, 8.1A, 9.2mOhm; Manufacturer Part Number: 744383560068HT; Manufacturer: Wurth Elektronik; Case/Size Code: 4020; DC Resistance: 8mOhm; Saturation Current: 8.5A; Self Resonant Frequency: 67MHz; Match Code: WE-MAPI; ComponentLink1Description: Website Link; ComponentLink1URL: https://www.we-online.com/redexpert/article/744383560068HT?ad; ComponentLink2Description: Datasheet Link; ComponentLink2URL: https://www.we-online.com/redexpert/spec/744383560068HT?ad; Mount: Surface Mount; Operating Temperature Max: 150°C; Operating Temperature Min: -55°C; Packaging: Tape and Reel; Length: 4.1mm; Width: 4.1mm; Height: 2.1mm; DC Resistance Max: 9.2mOhm; Inductance: 0.68uH; Rated Current: 8.1A
footprint WE-MAPI_4020
simulation model 4020_744383560068HT_0.68u
pins: 1, 2

## 744383660082
designator L?, comment 0.82uH, 8.8A  (value not drawn)
WE-MAPI, size 5020, 0.82uH, 8.8A, 9.6mOhm; Manufacturer Part Number: 744383660082; Manufacturer: Wurth Elektronik; Case/Size Code: 5020; DC Resistance: 8.3mOhm; Saturation Current: 11A; Self Resonant Frequency: 53.5MHz; Match Code: WE-MAPI; ComponentLink1Description: Website Link; ComponentLink1URL: https://www.we-online.com/redexpert/article/744383660082?ad; ComponentLink2Description: Datasheet Link; ComponentLink2URL: https://www.we-online.com/redexpert/spec/744383660082?ad; Mount: Surface Mount; Operating Temperature Max: 125°C; Operating Temperature Min: -40°C; Packaging: Tape and Reel; Length: 5.4mm; Width: 5.4mm; Height: 2.1mm; DC Resistance Max: 9.6mOhm; Inductance: 0.82uH; Rated Current: 8.8A
footprint WE-MAPI_5020
simulation model 5020_744383660082_0.82u
pins: 1, 2

## 744383770033
designator L?, comment 0.33uH, 22.8A  (value not drawn)
WE-MAPI, size 6030, 0.33uH, 22.8A, 2.9mOhm; Manufacturer Part Number: 744383770033; Manufacturer: Wurth Elektronik; Case/Size Code: 6030; Operating Voltage (DC): 80V; Saturation Current: 29A; Self Resonant Frequency: 93MHz; Match Code: WE-MAPI; ComponentLink1Description: Website Link; ComponentLink1URL: https://www.we-online.com/redexpert/article/744383770033?ad; ComponentLink2Description: Datasheet Link; ComponentLink2URL: https://www.we-online.com/redexpert/spec/744383770033?ad; Mount: Surface Mount; Operating Temperature Max: 125°C; Operating Temperature Min: -40°C; Packaging: Tape and Reel; Length: 6.6mm; Width: 6.6mm; Height: 3.1mm; DC Resistance Max: 2.9mOhm; Inductance: 0.33uH; Rated Current: 22.8A
footprint WE-MAPI_6030
simulation model 6030_744383770033_0.33u
pins: 1, 2

## 744383770033HT
designator L?, comment 0.33uH, 21.6A  (value not drawn)
WE-MAPI, size 6030, 0.33uH, 21.6A, 3mOhm; Manufacturer Part Number: 744383770033HT; Manufacturer: Wurth Elektronik; Case/Size Code: 6030; Operating Voltage (DC): 80V; Saturation Current: 27.5A; Self Resonant Frequency: 96MHz; Match Code: WE-MAPI; ComponentLink1Description: Website Link; ComponentLink1URL: https://www.we-online.com/redexpert/article/744383770033HT?ad; ComponentLink2Description: Datasheet Link; ComponentLink2URL: https://www.we-online.com/redexpert/spec/744383770033HT?ad; Mount: Surface Mount; Operating Temperature Max: 150°C; Operating Temperature Min: -55°C; Packaging: Tape and Reel; Length: 6.6mm; Width: 6.6mm; Height: 3.1mm; DC Resistance Max: 3mOhm; Inductance: 0.33uH; Rated Current: 21.6A
footprint WE-MAPI_6030
simulation model 6030HT_744383770033HT_0.33u
pins: 1, 2

## 744383770068
designator L?, comment 0.68uH, 18.5A  (value not drawn)
WE-MAPI, size 6030, 0.68uH, 18.5A, 4.3mOhm; Manufacturer Part Number: 744383770068; Manufacturer: Wurth Elektronik; Case/Size Code: 6030; Operating Voltage (DC): 80V; Saturation Current: 23.5A; Self Resonant Frequency: 60MHz; Match Code: WE-MAPI; ComponentLink1Description: Website Link; ComponentLink1URL: https://www.we-online.com/redexpert/article/744383770068?ad; ComponentLink2Description: Datasheet Link; ComponentLink2URL: https://www.we-online.com/redexpert/spec/744383770068?ad; Mount: Surface Mount; Operating Temperature Max: 125°C; Operating Temperature Min: -40°C; Packaging: Tape and Reel; Length: 6.6mm; Width: 6.6mm; Height: 3.1mm; DC Resistance Max: 4.3mOhm; Inductance: 0.68uH; Rated Current: 18.5A
footprint WE-MAPI_6030
simulation model 6030_744383770068_0.68u
pins: 1, 2

## 744383770068HT
designator L?, comment 0.68uH, 16.7A  (value not drawn)
WE-MAPI, size 6030, 0.68uH, 16.7A, 5.6mOhm; Manufacturer Part Number: 744383770068HT; Manufacturer: Wurth Elektronik; Case/Size Code: 6030; Operating Voltage (DC): 80V; Saturation Current: 21.5A; Self Resonant Frequency: 55MHz; Match Code: WE-MAPI; ComponentLink1Description: Website Link; ComponentLink1URL: https://www.we-online.com/redexpert/article/744383770068HT?ad; ComponentLink2Description: Datasheet Link; ComponentLink2URL: https://www.we-online.com/redexpert/spec/744383770068HT?ad; Mount: Surface Mount; Operating Temperature Max: 150°C; Operating Temperature Min: -55°C; Packaging: Tape and Reel; Length: 6.6mm; Width: 6.6mm; Height: 3.1mm; DC Resistance Max: 5.6mOhm; Inductance: 0.68uH; Rated Current: 16.7A
footprint WE-MAPI_6030
simulation model 6030HT_744383770068HT_0.68u
pins: 1, 2

## 7443835400033
designator L?, comment 0.033uH, 33.5A  (value not drawn)
WE-MAPI, size 4012, 0.033uH, 33.5A, 1.1mOhm; Manufacturer Part Number: 7443835400033; Manufacturer: Wurth Elektronik; Case/Size Code: 4012; Operating Voltage (DC): 80V; Saturation Current: 40A; Self Resonant Frequency: 682MHz; Match Code: WE-MAPI; ComponentLink1Description: Website Link; ComponentLink1URL: https://www.we-online.com/redexpert/article/7443835400033?ad; ComponentLink2Description: Datasheet Link; ComponentLink2URL: https://www.we-online.com/redexpert/spec/7443835400033?ad; Mount: Surface Mount; Operating Temperature Max: 125°C; Operating Temperature Min: -40°C; Packaging: Tape and Reel; Length: 4.1mm; Width: 4.1mm; Height: 1.3mm; DC Resistance Max: 1.1mOhm; Inductance: 0.033uH; Rated Current: 33.5A
footprint WE-MAPI_4012
simulation model 4012_7443835400033_0.033u
pins: 1, 2

## 7443835400068
designator L?, comment 0.068uH, 27A  (value not drawn)
WE-MAPI, size 4012, 0.068uH, 27A, 1.9mOhm; Manufacturer Part Number: 7443835400068; Manufacturer: Wurth Elektronik; Case/Size Code: 4012; Operating Voltage (DC): 80V; Saturation Current: 38A; Self Resonant Frequency: 374MHz; Match Code: WE-MAPI; ComponentLink1Description: Website Link; ComponentLink1URL: https://www.we-online.com/redexpert/article/7443835400068?ad; ComponentLink2Description: Datasheet Link; ComponentLink2URL: https://www.we-online.com/redexpert/spec/7443835400068?ad; Mount: Surface Mount; Operating Temperature Max: 125°C; Operating Temperature Min: -40°C; Packaging: Tape and Reel; Length: 4.1mm; Width: 4.1mm; Height: 1.3mm; DC Resistance Max: 1.9mOhm; Inductance: 0.068uH; Rated Current: 27A
footprint WE-MAPI_4012
simulation model 4012_7443835400068_0.068u
pins: 1, 2